# Altium integrated library CONSMA020.062-G.IntLib: 1 symbol
Pins are listed as number, name and electrical type; pins without a type are passive.

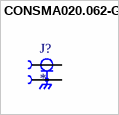
[diagram p0: symbol CONSMA020.062-G]

## CONSMA020.062-G
designator J?
SMA Edge Mount Female Receptacle 0.062 PCB Mount, Gold; MP: CONSMA020.062-G; MF: Linx Technologies; Value: *; Availability: In Stock; Check_prices: https://www.snapeda.com/parts/CONSMA020.062-G/Linx/view-part/4834989/?ref=eda; Package: None; Price: None; SnapEDA_Link: https://www.snapeda.com/parts/CONSMA020.062-G/Linx/view-part/4834989/?ref=snap
footprint LINX_CONSMA020.062-G
pins: 1, S1 2, S2 2, S3 2, S4 2